# Altium integrated library DHT22.IntLib: 1 symbol
Pins are listed as number, name and electrical type; pins without a type are passive.

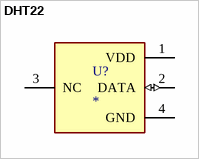
[diagram p0: symbol DHT22]

## DHT22
designator U?
MP: DHT22; Package: None; Price: None; Value: *; Availability: Unavailable
footprint XDCR_DHT22
pins: 1 VDD (power), 2 DATA (io), 3 NC, 4 GND (power)